# EAGLE library part MCDV10 (library con-phoenix-381_l)
Mini-Combicon Doppelstock-Grundgehäuse 3,81mm vertikal 2x10-polig MCDV 1,5/10-G-3,81 (ohne Gegenstecker)
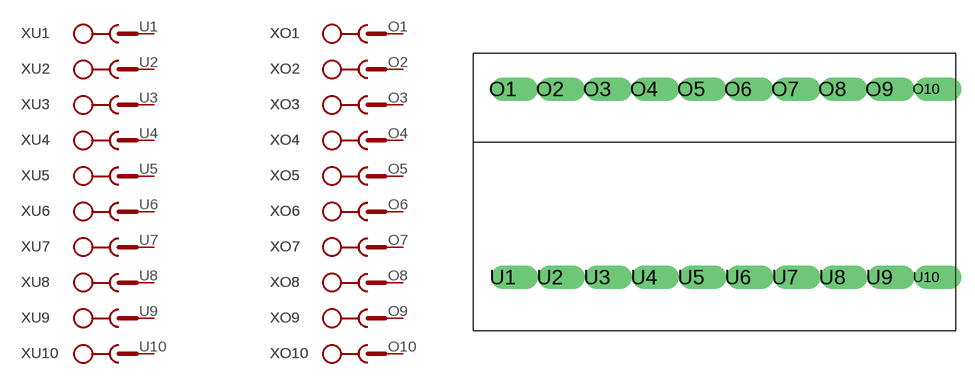
[diagram p6: symbol with the pads of MCDV10; footprint MCDV10]

Designator prefix X; gates U1=SK U2=SK U3=SK U4=SK U5=SK U6=SK U7=SK U8=SK U9=SK U10=SK O1=SK O2=SK O3=SK O4=SK O5=SK O6=SK O7=SK O8=SK O9=SK O10=SK

## MCDV101  [MCDV10]
O1  O1:1  pas
O2  O2:1  pas
O3  O3:1  pas
O4  O4:1  pas
O5  O5:1  pas
O6  O6:1  pas
O7  O7:1  pas
O8  O8:1  pas
O9  O9:1  pas
O10  O10:1  pas
U1  U1:1  pas
U2  U2:1  pas
U3  U3:1  pas
U4  U4:1  pas
U5  U5:1  pas
U6  U6:1  pas
U7  U7:1  pas
U8  U8:1  pas
U9  U9:1  pas
U10  U10:1  pas

## Footprint MCDV10 (pad centres in mm)
2x10polig 3.81 Klemme
drill 1.27 offset: O1 -17.145,7.62; O2 -13.335,7.62; O3 -9.525,7.62; O4 -5.715,7.62; O5 -1.905,7.62; O6 1.905,7.62; O7 5.715,7.62; O8 9.525,7.62; O9 13.335,7.62; O10 17.145,7.62; U1 -17.145,-7.62; U2 -13.335,-7.62; U3 -9.525,-7.62; U4 -5.715,-7.62; U5 -1.905,-7.62; U6 1.905,-7.62; U7 5.715,-7.62; U8 9.525,-7.62; U9 13.335,-7.62; U10 17.145,-7.62